# EAGLE library part LTC3835-1 (library PowerProducts)
LT-Spice library generated with : ltspice.ulp from: D:/Program Files (x86)/LTC/LTspiceIV/lib/sym/PowerProducts/LTM4600*.asy at 07.10.2012 18:46:03
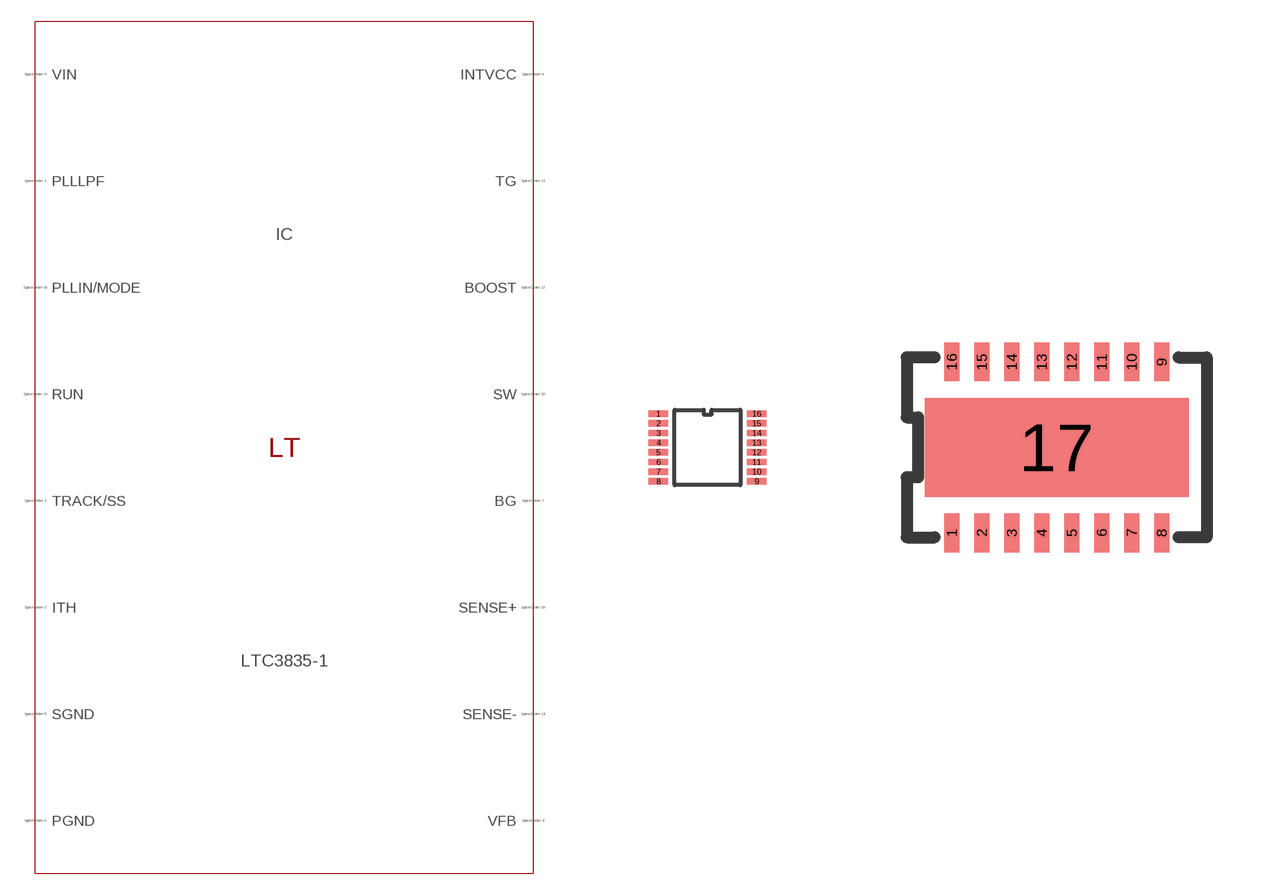
[diagram p359: symbol with the pads of SSOP16(GN); footprints SSOP16(GN), DFN16(DHC)]

Designator prefix IC

## LTC3835-1GN (SPICEMODEL: LTC3835-1.sub; SPICEPREFIX: X; VALUE2: LTC3835-1)  [SSOP16(GN)]
1  PLLLPF  pas
2  ITH  pas
3  TRACK/SS  pas
4  VFB  pas
5  SGND  pas
6  PGND  pas
7  BG  pas
8  INTVCC  pas
9  VIN  pas
10  SW  pas
11  TG  pas
12  BOOST  pas
13  RUN  pas
14  SENSE-  pas
15  SENSE+  pas
16  PLLIN/MODE  pas

## LTC3835-1 (SPICEMODEL: LTC3835-1.sub; SPICEPREFIX: X; VALUE2: LTC3835-1)  [DFN16(DHC)]
1  PLLLPF  pas
2  ITH  pas
3  TRACK/SS  pas
4  VFB  pas
5  SGND  pas
6  PGND  pas
7  BG  pas
8  INTVCC  pas
9  VIN  pas
10  SW  pas
11  TG  pas
12  BOOST  pas
13  RUN  pas
14  SENSE-  pas
15  SENSE+  pas
16  PLLIN/MODE  pas
17  SGND  pas

## Footprint SSOP16(GN) (pad centres in mm)
Package generated from: SSOP16(GN).asc (!PADS-POWERPCB-V5.0-BASIC! DESIGN DATABASE ASCII FILE 1.0) with :import-pads-powerpcb-v5.ulp Version 1.0.1 at 04.10.2012 14:11:37
smd 0.484 x 0.16: 1 -1.229,0.847; 2 -1.229,0.605; 3 -1.229,0.363; 4 -1.229,0.121; 5 -1.229,-0.121; 6 -1.229,-0.363; 7 -1.229,-0.605; 8 -1.229,-0.847; 9 1.229,-0.847; 10 1.229,-0.605; 11 1.229,-0.363; 12 1.229,-0.121; 13 1.229,0.121; 14 1.229,0.363; 15 1.229,0.605; 16 1.229,0.847

## Footprint DFN16(DHC) (pad centres in mm)
Package generated from: DFN16(DHC).asc (!PADS-POWERPCB-V5.0-BASIC! DESIGN DATABASE ASCII FILE 1.0) with :import-pads-powerpcb-v5.ulp Version 1.0.1 at 04.10.2012 14:11:17
smd 0.375 x 0.975: 1 -2.625,-2.138; 2 -1.875,-2.138; 3 -1.125,-2.138; 4 -0.375,-2.138; 5 0.375,-2.138; 6 1.125,-2.138; 7 1.875,-2.138; 8 2.625,-2.138; 9 2.625,2.138; 10 1.875,2.138; 11 1.125,2.138; 12 0.375,2.138; 13 -0.375,2.138; 14 -1.125,2.138; 15 -1.875,2.138; 16 -2.625,2.138
smd 6.6 x 2.475: 17 0,0